# Altium footprint library helix_4_minimal_template.PcbLib: 19 footprints (part 2 of 2)
Each footprint in its own frame and in the unit in brackets; x right, y up, seen from the top. Pads: shape width x height; smd on the part's side, far side on the other; paste and mask are expansions set on the pad; w line width, h text height; cw(c..) or ccw(c..) is an arc to the next point about the centre after c.
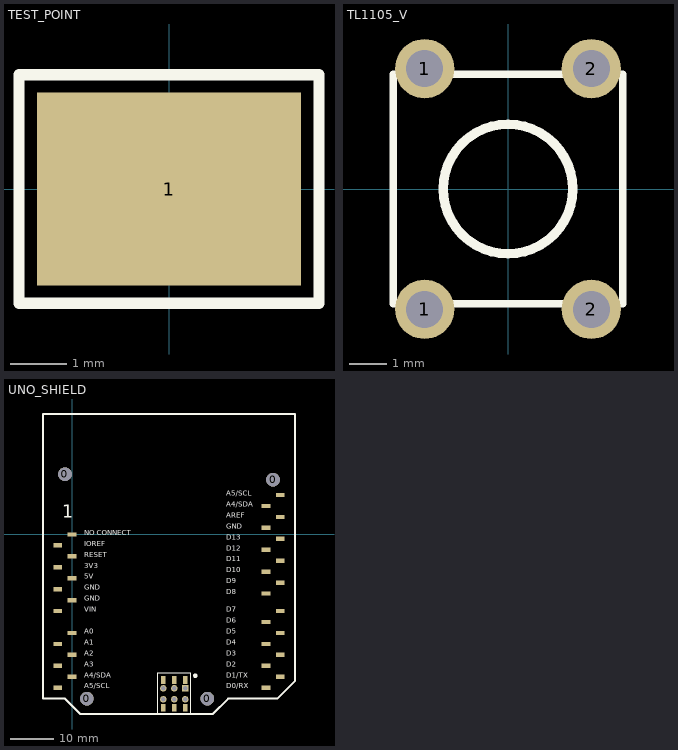
[diagram p1: the footprints below, top view; thin cyan lines are the x and y axes]

## TEST_POINT [mm]
height 0.01
pads (1):
  rect 4.7x3.43 smd: 1(0,0)
Top Overlay:
  lines w0.2: -2.667,-2.032 2.667,-2.032 2.667,2.032 -2.667,2.032 -2.667,-2.032

## TL1105_V [mm] "SPST 6X6MM SWITCH NO"
height 2.6
pads (4):
  round 1.6 hole 1: 1(-2.25,-3.25) 1(-2.25,3.25) 2(2.25,-3.25) 2(2.25,3.25)
Top Overlay:
  circle w0.254: c0,0 r1.75
  lines w0.2: -3.1,-3.1 3.1,-3.1 3.1,3.1 -3.1,3.1 -3.1,-3.1

## UNO_SHIELD [mm]
height 1.3
pads (48):
  round 3.175 hole 3.175 unplated: 0(-1.64,13.97) 0(3.44,-38.1) 0(31.38,-38.1) 0(46.62,12.7)
  rect 2x1 smd: 1(0,0) 2(-3.28,-2.54) 3(0,-5.08) 4(-3.28,-7.62) 5(0,-10.16) 6(-3.28,-12.7) 7(0,-15.24) 8(-3.28,-17.78) 9(0,-22.86) 10(-3.28,-25.4) 11(0,-27.94) 12(-3.28,-30.48) 13(0,-33.02) 14(-3.28,-35.56) 21(44.98,-35.56) 22(48.26,-33.02) 23(44.98,-30.48) 24(48.26,-27.94) 25(44.98,-25.4) 26(48.26,-22.86) 27(44.98,-20.32) 28(48.26,-17.78) 29(44.98,-13.716) 30(48.26,-11.176) 31(44.98,-8.636) 32(48.26,-6.096) 33(44.98,-3.556) 34(48.26,-1.016) 35(44.98,1.524) 36(48.26,4.064) 37(44.98,6.604) 38(48.26,9.144)
  rect 1.5x1.5 hole 1.016: 15(26.25,-35.7)
  rect 1.016x1.778 smd: 16(26.25,-40.17) 17(23.71,-33.77) 18(23.71,-40.17) 19(21.17,-33.77) 20(21.17,-40.17) 33(26.25,-33.77)
  round 1.5 hole 1.016: 16(26.25,-38.24) 17(23.71,-35.7) 18(23.71,-38.24) 19(21.17,-35.7) 20(21.17,-38.24)
Top Overlay:
  circle w0.508: c28.586,-32.766 r0.254
  lines w0.127: 19.9,-41.656 27.52,-41.656 27.52,-32.131 19.9,-32.131 19.9,-41.656
  lines w0.5: -6.72,-38.1 -6.72,27.94 51.7,27.94 51.7,-34.036 47.636,-38.1 36.206,-38.1 32.65,-41.656 1.916,-41.656 -1.64,-38.1 -6.72,-38.1
  text "A4/SDA" at 35.825,5.969 h2.03
  text "A5/SCL" at 35.825,8.509 h2.03
  text "AREF" at 35.825,3.429 h2.03
  text "GND" at 35.825,0.889 h2.03
  text "D13" at 35.825,-1.651 h2.03
  text "D12" at 35.825,-4.191 h2.03
  text "D11" at 35.825,-6.731 h2.03
  text "D10" at 35.825,-9.271 h2.03
  text "D9" at 35.825,-11.811 h2.03
  text "D8" at 35.825,-14.351 h2.03
  text "D7" at 35.825,-18.415 h2.03
  text "D6" at 35.825,-20.955 h2.03
  text "D5" at 35.825,-23.495 h2.03
  text "D4" at 35.825,-26.035 h2.03
  text "D3" at 35.825,-28.575 h2.03
  text "D2" at 35.825,-31.115 h2.03
  text "D1/TX" at 35.825,-33.655 h2.03
  text "D0/RX" at 35.825,-36.195 h2.03
  text "A5/SCL" at 2.805,-36.195 h2.03
  text "A4/SDA" at 2.805,-33.655 h2.03
  text "A3" at 2.805,-31.115 h2.03
  text "A2" at 2.805,-28.575 h2.03
  text "A1" at 2.805,-26.035 h2.03
  text "A0" at 2.805,-23.495 h2.03
  text "NO CONNECT" at 2.805,-0.635 h2.03
  text "VIN" at 2.805,-18.415 h2.03
  text "GND" at 2.805,-15.875 h2.03
  text "GND" at 2.805,-13.335 h2.03
  text "5V" at 2.805,-10.795 h2.03
  text "3V3" at 2.805,-8.255 h2.03
  text "RESET" at 2.805,-5.715 h2.03
  text "IOREF" at 2.805,-3.175 h2.03
  text "1" at -2.275,2.794 h5.08